# EAGLE library part JST-XH-S_7 (library BlueBoard)
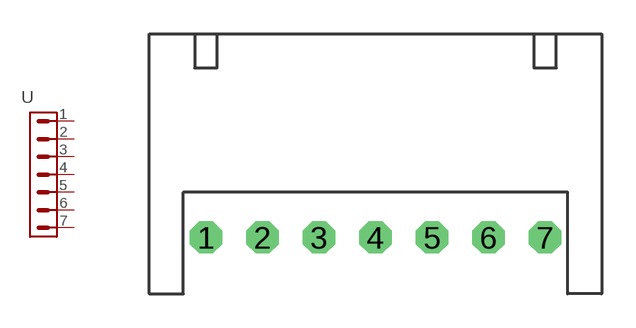
[diagram p19: symbol with the pads of JST-XH-7S; footprint JST-XH-7S]

Designator prefix -

## JST-XH-S_7  [JST-XH-7S]
1  1
2  2
3  3
4  4
5  5
6  6
7  7

## Footprint JST-XH-7S (pad centres in mm)
drill 0.8 pad 1.422 octagon: 1 -7.5,0; 2 -5,0; 3 -2.5,0; 4 0,0; 5 2.5,0; 6 5,0; 7 7.5,0